# Altium schematic symbol library TPS7A3301RGW.SchLib: 1 symbol
Pins are listed as number, name and electrical type; pins without a type are passive.

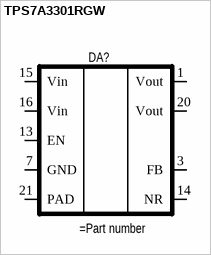
[diagram p0: symbol TPS7A3301RGW]

## TPS7A3301RGW
designator DA?
Ultralow-Noise, Negative Linear Regulator
pins: 1 Vout, 3 FB, 7 GND, 13 EN, 14 NR, 15 Vin, 16 Vin, 20 Vout, 21 PAD